# EAGLE library part 690367281476 (library Eagle_BOARD-TO-BOARD_CONNECTORS (rev18b))
WR-MM Female SMT Connector with Polarization, 14 Pins=>Code : Con_BTB_MM_Female_SMT_690367281476 <http://katalog.we-online.de/media/thumbs2/eican/thb_Con_BTB_MM_Female_SMT_69036728xx76_pf2.jpg> Details see: http://katalog.we-online.de/en/em/6903_6728_xx_76 Created 2014-06-04, Karrer Zheng 2014 (C) Würth Elektronik
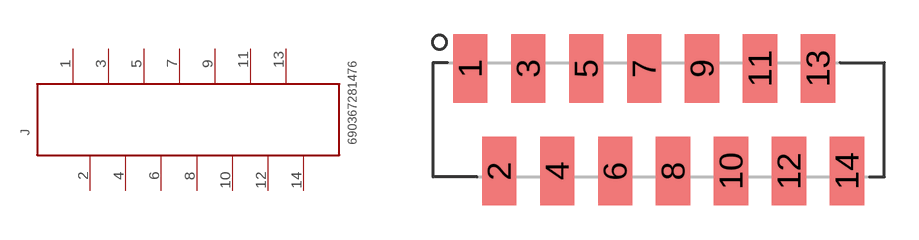
[diagram p353: symbol with the pads of 690367281476; footprint 690367281476]

Designator prefix J

## 690367281476  [690367281476]
1  14  pas
2  13  pas
3  12  pas
4  11  pas
5  10  pas
6  9  pas
7  8  pas
8  7  pas
9  6  pas
10  5  pas
11  4  pas
12  3  pas
13  2  pas
14  1  pas

## Footprint 690367281476 (pad centres in mm)
WR-MM Female SMT Connector with Polarization, 14 pins
smd 1.5 x 3: 1 -8.255,2.25; 2 -6.985,-2.25; 3 -5.715,2.25; 4 -4.445,-2.25; 5 -3.175,2.25; 6 -1.905,-2.25; 7 -0.635,2.25; 8 0.635,-2.25; 9 1.905,2.25; 10 3.175,-2.25; 11 4.445,2.25; 12 5.715,-2.25; 13 6.985,2.25; 14 8.255,-2.25